# Altium schematic symbol library Convertidores dig-analog DAC.SchLib: 1 symbol
Pins are listed as number, name and electrical type; pins without a type are passive.

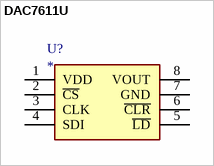
[diagram p0: symbol DAC7611U]

## DAC7611U
designator U?
datasheet: https://www.ti.com/lit/ds/symlink/dac7611.pdf?HQS=dis-mous-null-mousermode-dsf-pf-null-wwe&ts=1643498659504&ref_url=https%253A%252F%252Fwww.mouser.es%252F; ComponentLink1Description: mouser; ComponentLink1URL: https://www.mouser.es/ProductDetail/Texas-Instruments/DAC7611U?qs=vul0MlC%2Fa1c78wNUoT4Uwg%3D%3D
footprint SOIC127P600X175-8N
pins: 1 VDD, 2 ~{CS}, 3 CLK, 4 SDI, 5 ~{LD}, 6 ~{CLR}, 7 GND, 8 VOUT